# EAGLE library part TS972 (library sonder_b)
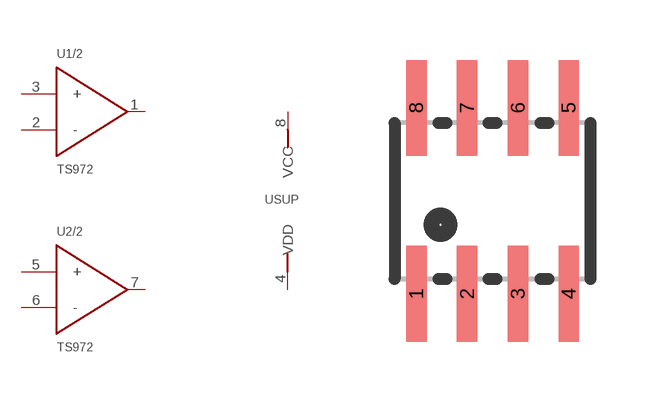
[diagram p4: symbol with the pads of SO-8; footprint SO-8]

Designator prefix -; gates 1/2=TS97X 2/2=TS97X SUP=SUP_PIN

## TS972ID  [SO-8]
1  1/2:OUT  out
2  1/2:-  in
3  1/2:+  in
4  SUP:VDD  sup
5  2/2:+  in
6  2/2:-  in
7  2/2:OUT  out
8  SUP:VCC  sup

## Footprint SO-8 (pad centres in mm)
smd 0.51 x 2.39: 1 -1.905,-2.324; 2 -0.635,-2.324; 3 0.635,-2.324; 4 1.905,-2.324; 5 1.905,2.324; 6 0.635,2.324; 7 -0.635,2.324; 8 -1.905,2.324